# Altium schematic symbol library 1N5817.SchLib: 1 symbol
Pins are listed as number, name and electrical type; pins without a type are passive.

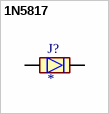
[diagram p0: symbol 1N5817]

## 1N5817
designator J?
Diode Schottky 20 V 1A Through Hole DO-41; MP: 1N5817-T; MF: Diodes Inc.; Price: None; SnapEDA_Link: https://www.snapeda.com/parts/1N5817-T/Diodes+Inc./view-part/?ref=snap; Availability: In Stock; Purchase-URL: https://pricing.snapeda.com/search/part/1N5817-T/?ref=eda; Value: *; Check_prices: https://www.snapeda.com/parts/1N5817-T/Diodes+Inc./view-part/?ref=eda; Package: DO-41 Diodes Inc.
footprint DO41-10
pins: A, C